# Altium schematic symbol library MB0043A.01.A.2.SchLib: 1 symbol
Pins are listed as number, name and electrical type; pins without a type are passive.

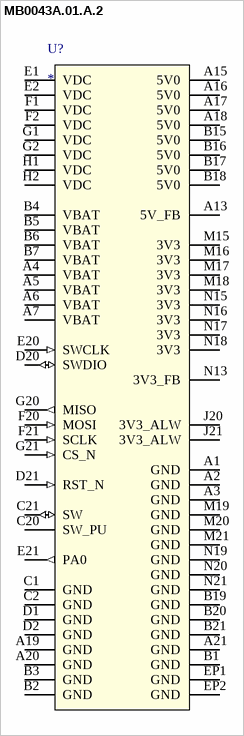
[diagram p0: symbol MB0043A.01.A.2]

## MB0043A.01.A.2
designator U?
pins: A1 GND (power), A2 GND (power), A3 GND (power), A4 VBAT, A5 VBAT, A6 VBAT, A7 VBAT, A13 5V_FB, A15 5V0 (power), A16 5V0 (power), A17 5V0 (power), A18 5V0 (power), A19 GND (power), A20 GND (power), A21 GND (power), B1 GND (power), B2 GND (power), B3 GND (power), B4 VBAT, B5 VBAT, B6 VBAT, B7 VBAT, B15 5V0 (power), B16 5V0 (power), B17 5V0 (power), B18 5V0 (power), B19 GND (power), B20 GND (power), B21 GND (power), C1 GND (power), C2 GND (power), C20 SW_PU, C21 SW (io), D1 GND (power), D2 GND (power), D20 SWDIO (io), D21 RST_N (in), E1 VDC, E2 VDC, E20 SWCLK (in), E21 PA0 (out), EP1 GND (power), EP2 GND (power), F1 VDC, F2 VDC, F20 MOSI (in), F21 SCLK (in), G1 VDC, G2 VDC, G20 MISO (out), G21 CS_N (in), H1 VDC, H2 VDC, J20 3V3_ALW, J21 3V3_ALW, M15 3V3 (power), M16 3V3 (power), M17 3V3 (power), M18 3V3 (power), M19 GND (power), M20 GND (power), M21 GND (power), N13 3V3_FB, N15 3V3 (power), N16 3V3 (power), N17 3V3 (power), N18 3V3 (power), N19 GND (power), N20 GND (power), N21 GND (power)